# EAGLE library part ADM4073 (library _PWM_driver)
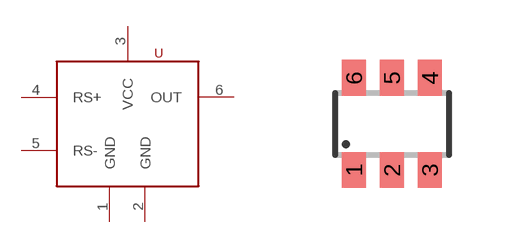
[diagram p4: symbol with the pads of SOT23-6; footprint SOT23-6]

Designator prefix -

## ADM4073  [SOT23-6]
1  GND  pwr
2  GND  out
3  VCC  pwr
4  RS+  in
5  RS-  in
6  OUT  out

## Footprint SOT23-6 (pad centres in mm)
Small Outline Transistor 6 lead
smd 0.6 x 0.9: 1 -0.95,-1.15; 2 0,-1.15; 3 0.95,-1.15; 4 0.95,1.15; 5 0,1.15; 6 -0.95,1.15